# Altium footprint library KA-3021SGCT.PcbLib: 1 footprints
Each footprint in its own frame and in the unit in brackets; x right, y up, seen from the top. Pads: shape width x height; smd on the part's side, far side on the other; paste and mask are expansions set on the pad; w line width, h text height; cw(c..) or ccw(c..) is an arc to the next point about the centre after c.
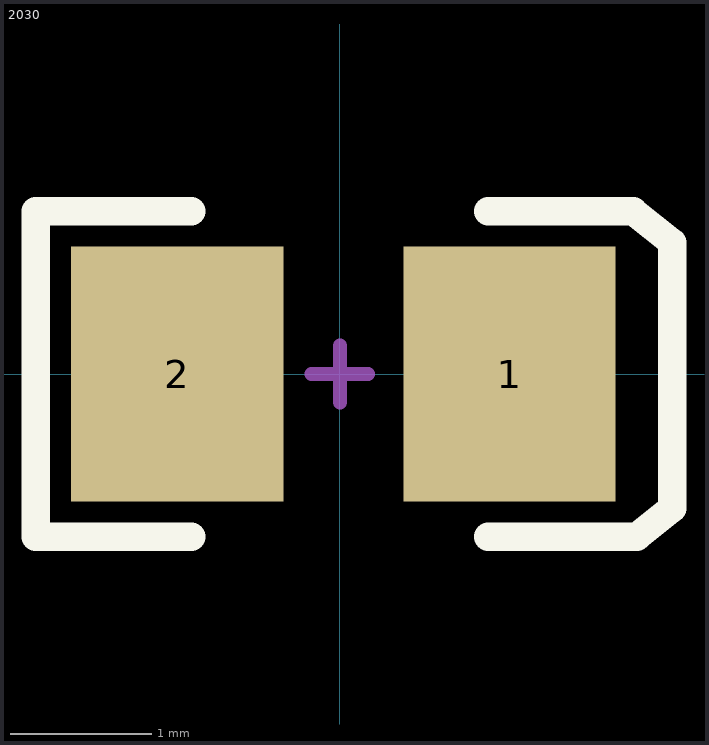
[diagram p0: the footprint, top view; thin cyan lines are the x and y axes]

## 2030 [mm] "SMT LED; 2 Flat Leads"
height 1.2
pads (2):
  rect 1.5x1.8 smd: 1(1.2,0) 2(-1.15,0)
Top Overlay:
  lines w0.2: -1.05,-1.15 -2.15,-1.15 -2.15,1.15 -1.05,1.15 ; 1.05,-1.15 2.1,-1.15 2.35,-0.95 2.35,0.93 2.075,1.15 1.05,1.15
Mechanical 1:
  lines w0.1: -0.2,0 0.2,0 ; 0,-0.2 0,0.2
3D body "светодиод 3х2 мм зеленый.STEP": height 1.29, standoff -0.01, extent -1.5,-1 1.5,1